# Altium schematic symbol library PRM123.SchLib: 1 symbol
Pins are listed as number, name and electrical type; pins without a type are passive.

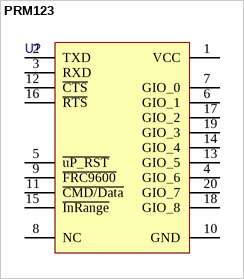
[diagram p0: symbol PRM123]

## PRM123
designator U?  (value not drawn)
pins: 1 VCC, 2 TXD, 3 RXD, 4 GIO_6, 5 ~{uP_RST}, 6 GIO_1, 7 GIO_0, 8 NC, 9 ~{FRC9600}, 10 GND, 11 ~{CMD/Data}, 12 ~{CTS}, 13 GIO_5, 14 GIO_4, 15 ~{InRange}, 16 ~{RTS}, 17 GIO_2, 18 GIO_8, 19 GIO_3, 20 GIO_7
1 alternate drawing of the same symbol